# Altium footprint library IPC-SM-782 Section 14.1.1 PBGA 1.5mm.PcbLib: 50 footprints (part 2 of 7)
Each footprint in its own frame and in the unit in brackets; x right, y up, seen from the top. Pads: shape width x height; smd on the part's side, far side on the other; paste and mask are expansions set on the pad; w line width, h text height; cw(c..) or ccw(c..) is an arc to the next point about the centre after c.
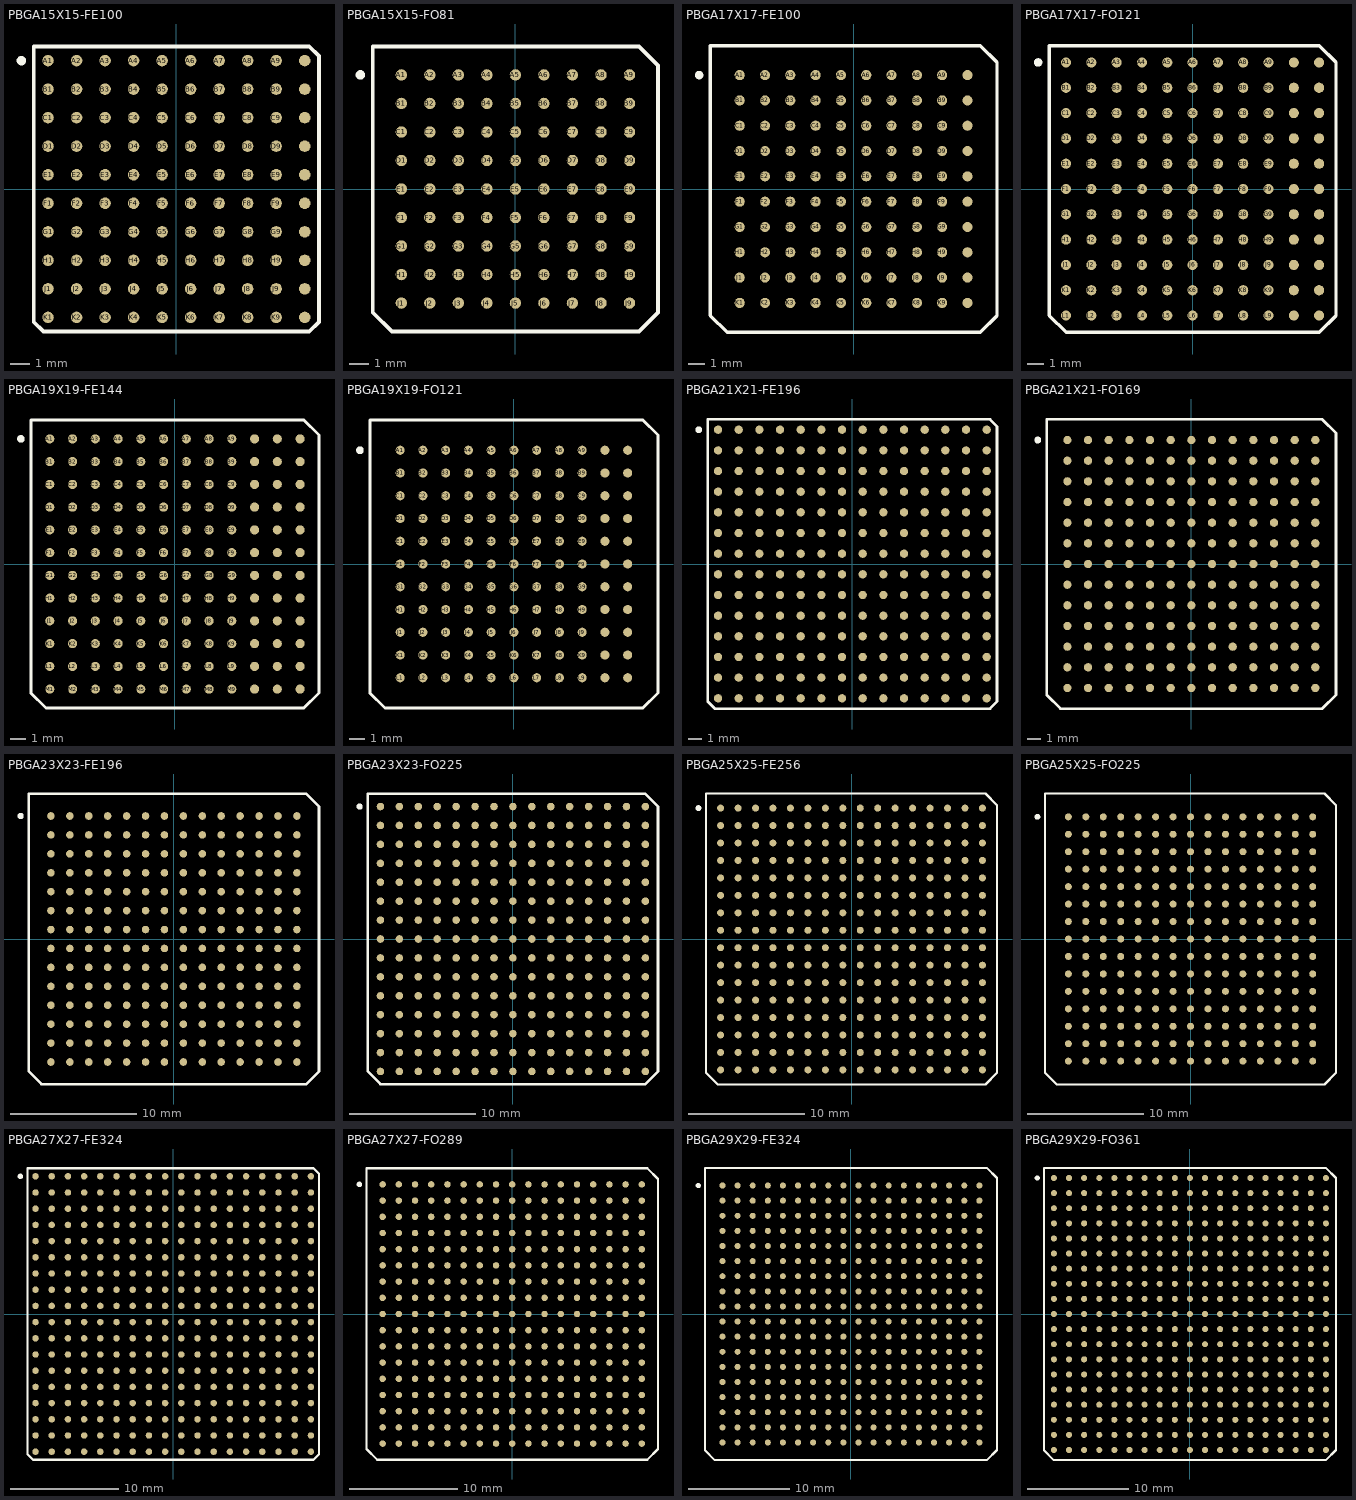
[diagram p1: the footprints below, top view; thin cyan lines are the x and y axes]

## PBGA15X15-FE100 [mm] "BGA; 100 Balls; Body 15 x 15 mm; Pitch 1.5 mm"
height 3.5
pads (100):
  round 0.6 smd: A1(-6.75,6.75) A2(-5.25,6.75) A3(-3.75,6.75) A4(-2.25,6.75) A5(-0.75,6.75) A6(0.75,6.75) A7(2.25,6.75) A8(3.75,6.75) A9(5.25,6.75) A10(6.75,6.75) B1(-6.75,5.25) B2(-5.25,5.25) B3(-3.75,5.25) B4(-2.25,5.25) B5(-0.75,5.25) B6(0.75,5.25) B7(2.25,5.25) B8(3.75,5.25) B9(5.25,5.25) B10(6.75,5.25) C1(-6.75,3.75) C2(-5.25,3.75) C3(-3.75,3.75) C4(-2.25,3.75) C5(-0.75,3.75) C6(0.75,3.75) C7(2.25,3.75) C8(3.75,3.75) C9(5.25,3.75) C10(6.75,3.75) D1(-6.75,2.25) D2(-5.25,2.25) D3(-3.75,2.25) D4(-2.25,2.25) D5(-0.75,2.25) D6(0.75,2.25) D7(2.25,2.25) D8(3.75,2.25) D9(5.25,2.25) D10(6.75,2.25) E1(-6.75,0.75) E2(-5.25,0.75) E3(-3.75,0.75) E4(-2.25,0.75) E5(-0.75,0.75) E6(0.75,0.75) E7(2.25,0.75) E8(3.75,0.75) E9(5.25,0.75) E10(6.75,0.75) F1(-6.75,-0.75) F2(-5.25,-0.75) F3(-3.75,-0.75) F4(-2.25,-0.75) F5(-0.75,-0.75) F6(0.75,-0.75) F7(2.25,-0.75) F8(3.75,-0.75) F9(5.25,-0.75) F10(6.75,-0.75) G1(-6.75,-2.25) G2(-5.25,-2.25) G3(-3.75,-2.25) G4(-2.25,-2.25) G5(-0.75,-2.25) G6(0.75,-2.25) G7(2.25,-2.25) G8(3.75,-2.25) G9(5.25,-2.25) G10(6.75,-2.25) H1(-6.75,-3.75) H2(-5.25,-3.75) H3(-3.75,-3.75) H4(-2.25,-3.75) H5(-0.75,-3.75) H6(0.75,-3.75) H7(2.25,-3.75) H8(3.75,-3.75) H9(5.25,-3.75) H10(6.75,-3.75) J1(-6.75,-5.25) J2(-5.25,-5.25) J3(-3.75,-5.25) J4(-2.25,-5.25) J5(-0.75,-5.25) J6(0.75,-5.25) J7(2.25,-5.25) J8(3.75,-5.25) J9(5.25,-5.25) J10(6.75,-5.25) K1(-6.75,-6.75) K2(-5.25,-6.75) K3(-3.75,-6.75) K4(-2.25,-6.75) K5(-0.75,-6.75) K6(0.75,-6.75) K7(2.25,-6.75) K8(3.75,-6.75) K9(5.25,-6.75) K10(6.75,-6.75)
Top Overlay:
  circle w0.25: c-8.155,6.75 r0.125
  lines w0.2: -7.5,-6.99 -7.5,7.5 6.99,7.5 7.5,6.99 7.5,-6.99 6.99,-7.5 -6.99,-7.5 -7.5,-6.99

## PBGA15X15-FO81 [mm] "BGA; 81 Balls; Body 15 x 15 mm; Pitch 1.5 mm"
height 3.5
pads (81):
  round 0.6 smd: A1(-6,6) A2(-4.5,6) A3(-3,6) A4(-1.5,6) A5(0,6) A6(1.5,6) A7(3,6) A8(4.5,6) A9(6,6) B1(-6,4.5) B2(-4.5,4.5) B3(-3,4.5) B4(-1.5,4.5) B5(0,4.5) B6(1.5,4.5) B7(3,4.5) B8(4.5,4.5) B9(6,4.5) C1(-6,3) C2(-4.5,3) C3(-3,3) C4(-1.5,3) C5(0,3) C6(1.5,3) C7(3,3) C8(4.5,3) C9(6,3) D1(-6,1.5) D2(-4.5,1.5) D3(-3,1.5) D4(-1.5,1.5) D5(0,1.5) D6(1.5,1.5) D7(3,1.5) D8(4.5,1.5) D9(6,1.5) E1(-6,0) E2(-4.5,0) E3(-3,0) E4(-1.5,0) E5(0,0) E6(1.5,0) E7(3,0) E8(4.5,0) E9(6,0) F1(-6,-1.5) F2(-4.5,-1.5) F3(-3,-1.5) F4(-1.5,-1.5) F5(0,-1.5) F6(1.5,-1.5) F7(3,-1.5) F8(4.5,-1.5) F9(6,-1.5) G1(-6,-3) G2(-4.5,-3) G3(-3,-3) G4(-1.5,-3) G5(0,-3) G6(1.5,-3) G7(3,-3) G8(4.5,-3) G9(6,-3) H1(-6,-4.5) H2(-4.5,-4.5) H3(-3,-4.5) H4(-1.5,-4.5) H5(0,-4.5) H6(1.5,-4.5) H7(3,-4.5) H8(4.5,-4.5) H9(6,-4.5) J1(-6,-6) J2(-4.5,-6) J3(-3,-6) J4(-1.5,-6) J5(0,-6) J6(1.5,-6) J7(3,-6) J8(4.5,-6) J9(6,-6)
Top Overlay:
  circle w0.25: c-8.155,6 r0.125
  lines w0.2: -7.5,-6.5 -7.5,7.5 6.5,7.5 7.5,6.5 7.5,-6.5 6.5,-7.5 -6.5,-7.5 -7.5,-6.5

## PBGA17X17-FE100 [mm] "BGA; 100 Balls; Body 17 x 17 mm; Pitch 1.5 mm"
height 3.5
pads (100):
  round 0.6 smd: A1(-6.75,6.75) A2(-5.25,6.75) A3(-3.75,6.75) A4(-2.25,6.75) A5(-0.75,6.75) A6(0.75,6.75) A7(2.25,6.75) A8(3.75,6.75) A9(5.25,6.75) A10(6.75,6.75) B1(-6.75,5.25) B2(-5.25,5.25) B3(-3.75,5.25) B4(-2.25,5.25) B5(-0.75,5.25) B6(0.75,5.25) B7(2.25,5.25) B8(3.75,5.25) B9(5.25,5.25) B10(6.75,5.25) C1(-6.75,3.75) C2(-5.25,3.75) C3(-3.75,3.75) C4(-2.25,3.75) C5(-0.75,3.75) C6(0.75,3.75) C7(2.25,3.75) C8(3.75,3.75) C9(5.25,3.75) C10(6.75,3.75) D1(-6.75,2.25) D2(-5.25,2.25) D3(-3.75,2.25) D4(-2.25,2.25) D5(-0.75,2.25) D6(0.75,2.25) D7(2.25,2.25) D8(3.75,2.25) D9(5.25,2.25) D10(6.75,2.25) E1(-6.75,0.75) E2(-5.25,0.75) E3(-3.75,0.75) E4(-2.25,0.75) E5(-0.75,0.75) E6(0.75,0.75) E7(2.25,0.75) E8(3.75,0.75) E9(5.25,0.75) E10(6.75,0.75) F1(-6.75,-0.75) F2(-5.25,-0.75) F3(-3.75,-0.75) F4(-2.25,-0.75) F5(-0.75,-0.75) F6(0.75,-0.75) F7(2.25,-0.75) F8(3.75,-0.75) F9(5.25,-0.75) F10(6.75,-0.75) G1(-6.75,-2.25) G2(-5.25,-2.25) G3(-3.75,-2.25) G4(-2.25,-2.25) G5(-0.75,-2.25) G6(0.75,-2.25) G7(2.25,-2.25) G8(3.75,-2.25) G9(5.25,-2.25) G10(6.75,-2.25) H1(-6.75,-3.75) H2(-5.25,-3.75) H3(-3.75,-3.75) H4(-2.25,-3.75) H5(-0.75,-3.75) H6(0.75,-3.75) H7(2.25,-3.75) H8(3.75,-3.75) H9(5.25,-3.75) H10(6.75,-3.75) J1(-6.75,-5.25) J2(-5.25,-5.25) J3(-3.75,-5.25) J4(-2.25,-5.25) J5(-0.75,-5.25) J6(0.75,-5.25) J7(2.25,-5.25) J8(3.75,-5.25) J9(5.25,-5.25) J10(6.75,-5.25) K1(-6.75,-6.75) K2(-5.25,-6.75) K3(-3.75,-6.75) K4(-2.25,-6.75) K5(-0.75,-6.75) K6(0.75,-6.75) K7(2.25,-6.75) K8(3.75,-6.75) K9(5.25,-6.75) K10(6.75,-6.75)
Top Overlay:
  circle w0.25: c-9.155,6.75 r0.125
  lines w0.2: -8.5,-7.5 -7.5,-8.5 7.5,-8.5 8.5,-7.5 8.5,7.5 7.5,8.5 -8.5,8.5 -8.5,-7.5

## PBGA17X17-FO121 [mm] "BGA; 121 Balls; Body 17 x 17 mm; Pitch 1.5 mm"
height 3.5
pads (121):
  round 0.6 smd: A1(-7.5,7.5) A2(-6,7.5) A3(-4.5,7.5) A4(-3,7.5) A5(-1.5,7.5) A6(0,7.5) A7(1.5,7.5) A8(3,7.5) A9(4.5,7.5) A10(6,7.5) A11(7.5,7.5) B1(-7.5,6) B2(-6,6) B3(-4.5,6) B4(-3,6) B5(-1.5,6) B6(0,6) B7(1.5,6) B8(3,6) B9(4.5,6) B10(6,6) B11(7.5,6) C1(-7.5,4.5) C2(-6,4.5) C3(-4.5,4.5) C4(-3,4.5) C5(-1.5,4.5) C6(0,4.5) C7(1.5,4.5) C8(3,4.5) C9(4.5,4.5) C10(6,4.5) C11(7.5,4.5) D1(-7.5,3) D2(-6,3) D3(-4.5,3) D4(-3,3) D5(-1.5,3) D6(0,3) D7(1.5,3) D8(3,3) D9(4.5,3) D10(6,3) D11(7.5,3) E1(-7.5,1.5) E2(-6,1.5) E3(-4.5,1.5) E4(-3,1.5) E5(-1.5,1.5) E6(0,1.5) E7(1.5,1.5) E8(3,1.5) E9(4.5,1.5) E10(6,1.5) E11(7.5,1.5) F1(-7.5,0) F2(-6,0) F3(-4.5,0) F4(-3,0) F5(-1.5,0) F6(0,0) F7(1.5,0) F8(3,0) F9(4.5,0) F10(6,0) F11(7.5,0) G1(-7.5,-1.5) G2(-6,-1.5) G3(-4.5,-1.5) G4(-3,-1.5) G5(-1.5,-1.5) G6(0,-1.5) G7(1.5,-1.5) G8(3,-1.5) G9(4.5,-1.5) G10(6,-1.5) G11(7.5,-1.5) H1(-7.5,-3) H2(-6,-3) H3(-4.5,-3) H4(-3,-3) H5(-1.5,-3) H6(0,-3) H7(1.5,-3) H8(3,-3) H9(4.5,-3) H10(6,-3) H11(7.5,-3) J1(-7.5,-4.5) J2(-6,-4.5) J3(-4.5,-4.5) J4(-3,-4.5) J5(-1.5,-4.5) J6(0,-4.5) J7(1.5,-4.5) J8(3,-4.5) J9(4.5,-4.5) J10(6,-4.5) J11(7.5,-4.5) K1(-7.5,-6) K2(-6,-6) K3(-4.5,-6) K4(-3,-6) K5(-1.5,-6) K6(0,-6) K7(1.5,-6) K8(3,-6) K9(4.5,-6) K10(6,-6) K11(7.5,-6) L1(-7.5,-7.5) L2(-6,-7.5) L3(-4.5,-7.5) L4(-3,-7.5) L5(-1.5,-7.5) L6(0,-7.5) L7(1.5,-7.5) L8(3,-7.5) L9(4.5,-7.5) L10(6,-7.5) L11(7.5,-7.5)
Top Overlay:
  circle w0.25: c-9.155,7.5 r0.125
  lines w0.2: -8.5,-7.5 -8.5,8.5 7.5,8.5 8.5,7.5 8.5,-7.5 7.5,-8.5 -7.5,-8.5 -8.5,-7.5

## PBGA19X19-FE144 [mm] "BGA; 144 Balls; Body 19 x 19 mm; Pitch 1.5 mm"
height 3.5
pads (144):
  round 0.6 smd: A1(-8.25,8.25) A2(-6.75,8.25) A3(-5.25,8.25) A4(-3.75,8.25) A5(-2.25,8.25) A6(-0.75,8.25) A7(0.75,8.25) A8(2.25,8.25) A9(3.75,8.25) A10(5.25,8.25) A11(6.75,8.25) A12(8.25,8.25) B1(-8.25,6.75) B2(-6.75,6.75) B3(-5.25,6.75) B4(-3.75,6.75) B5(-2.25,6.75) B6(-0.75,6.75) B7(0.75,6.75) B8(2.25,6.75) B9(3.75,6.75) B10(5.25,6.75) B11(6.75,6.75) B12(8.25,6.75) C1(-8.25,5.25) C2(-6.75,5.25) C3(-5.25,5.25) C4(-3.75,5.25) C5(-2.25,5.25) C6(-0.75,5.25) C7(0.75,5.25) C8(2.25,5.25) C9(3.75,5.25) C10(5.25,5.25) C11(6.75,5.25) C12(8.25,5.25) D1(-8.25,3.75) D2(-6.75,3.75) D3(-5.25,3.75) D4(-3.75,3.75) D5(-2.25,3.75) D6(-0.75,3.75) D7(0.75,3.75) D8(2.25,3.75) D9(3.75,3.75) D10(5.25,3.75) D11(6.75,3.75) D12(8.25,3.75) E1(-8.25,2.25) E2(-6.75,2.25) E3(-5.25,2.25) E4(-3.75,2.25) E5(-2.25,2.25) E6(-0.75,2.25) E7(0.75,2.25) E8(2.25,2.25) E9(3.75,2.25) E10(5.25,2.25) E11(6.75,2.25) E12(8.25,2.25) F1(-8.25,0.75) F2(-6.75,0.75) F3(-5.25,0.75) F4(-3.75,0.75) F5(-2.25,0.75) F6(-0.75,0.75) F7(0.75,0.75) F8(2.25,0.75) F9(3.75,0.75) F10(5.25,0.75) F11(6.75,0.75) F12(8.25,0.75) G1(-8.25,-0.75) G2(-6.75,-0.75) G3(-5.25,-0.75) G4(-3.75,-0.75) G5(-2.25,-0.75) G6(-0.75,-0.75) G7(0.75,-0.75) G8(2.25,-0.75) G9(3.75,-0.75) G10(5.25,-0.75) G11(6.75,-0.75) G12(8.25,-0.75) H1(-8.25,-2.25) H2(-6.75,-2.25) H3(-5.25,-2.25) H4(-3.75,-2.25) H5(-2.25,-2.25) H6(-0.75,-2.25) H7(0.75,-2.25) H8(2.25,-2.25) H9(3.75,-2.25) H10(5.25,-2.25) H11(6.75,-2.25) H12(8.25,-2.25) J1(-8.25,-3.75) J2(-6.75,-3.75) J3(-5.25,-3.75) J4(-3.75,-3.75) J5(-2.25,-3.75) J6(-0.75,-3.75) J7(0.75,-3.75) J8(2.25,-3.75) J9(3.75,-3.75) J10(5.25,-3.75) J11(6.75,-3.75) J12(8.25,-3.75) K1(-8.25,-5.25) K2(-6.75,-5.25) K3(-5.25,-5.25) K4(-3.75,-5.25) K5(-2.25,-5.25) K6(-0.75,-5.25) K7(0.75,-5.25) K8(2.25,-5.25) K9(3.75,-5.25) K10(5.25,-5.25) K11(6.75,-5.25) K12(8.25,-5.25) L1(-8.25,-6.75) L2(-6.75,-6.75) L3(-5.25,-6.75) L4(-3.75,-6.75) L5(-2.25,-6.75) L6(-0.75,-6.75) L7(0.75,-6.75) L8(2.25,-6.75) L9(3.75,-6.75) L10(5.25,-6.75) L11(6.75,-6.75) L12(8.25,-6.75) M1(-8.25,-8.25) M2(-6.75,-8.25) M3(-5.25,-8.25) M4(-3.75,-8.25) M5(-2.25,-8.25) M6(-0.75,-8.25) M7(0.75,-8.25) M8(2.25,-8.25) M9(3.75,-8.25) M10(5.25,-8.25) M11(6.75,-8.25) M12(8.25,-8.25)
Top Overlay:
  circle w0.25: c-10.155,8.25 r0.125
  lines w0.2: -9.5,-8.5 -8.5,-9.5 8.5,-9.5 9.5,-8.5 9.5,8.5 8.5,9.5 -9.5,9.5 -9.5,-8.5

## PBGA19X19-FO121 [mm] "BGA; 121 Balls; Body 19 x 19 mm; Pitch 1.5 mm"
height 3.5
pads (121):
  round 0.6 smd: A1(-7.5,7.5) A2(-6,7.5) A3(-4.5,7.5) A4(-3,7.5) A5(-1.5,7.5) A6(0,7.5) A7(1.5,7.5) A8(3,7.5) A9(4.5,7.5) A10(6,7.5) A11(7.5,7.5) B1(-7.5,6) B2(-6,6) B3(-4.5,6) B4(-3,6) B5(-1.5,6) B6(0,6) B7(1.5,6) B8(3,6) B9(4.5,6) B10(6,6) B11(7.5,6) C1(-7.5,4.5) C2(-6,4.5) C3(-4.5,4.5) C4(-3,4.5) C5(-1.5,4.5) C6(0,4.5) C7(1.5,4.5) C8(3,4.5) C9(4.5,4.5) C10(6,4.5) C11(7.5,4.5) D1(-7.5,3) D2(-6,3) D3(-4.5,3) D4(-3,3) D5(-1.5,3) D6(0,3) D7(1.5,3) D8(3,3) D9(4.5,3) D10(6,3) D11(7.5,3) E1(-7.5,1.5) E2(-6,1.5) E3(-4.5,1.5) E4(-3,1.5) E5(-1.5,1.5) E6(0,1.5) E7(1.5,1.5) E8(3,1.5) E9(4.5,1.5) E10(6,1.5) E11(7.5,1.5) F1(-7.5,0) F2(-6,0) F3(-4.5,0) F4(-3,0) F5(-1.5,0) F6(0,0) F7(1.5,0) F8(3,0) F9(4.5,0) F10(6,0) F11(7.5,0) G1(-7.5,-1.5) G2(-6,-1.5) G3(-4.5,-1.5) G4(-3,-1.5) G5(-1.5,-1.5) G6(0,-1.5) G7(1.5,-1.5) G8(3,-1.5) G9(4.5,-1.5) G10(6,-1.5) G11(7.5,-1.5) H1(-7.5,-3) H2(-6,-3) H3(-4.5,-3) H4(-3,-3) H5(-1.5,-3) H6(0,-3) H7(1.5,-3) H8(3,-3) H9(4.5,-3) H10(6,-3) H11(7.5,-3) J1(-7.5,-4.5) J2(-6,-4.5) J3(-4.5,-4.5) J4(-3,-4.5) J5(-1.5,-4.5) J6(0,-4.5) J7(1.5,-4.5) J8(3,-4.5) J9(4.5,-4.5) J10(6,-4.5) J11(7.5,-4.5) K1(-7.5,-6) K2(-6,-6) K3(-4.5,-6) K4(-3,-6) K5(-1.5,-6) K6(0,-6) K7(1.5,-6) K8(3,-6) K9(4.5,-6) K10(6,-6) K11(7.5,-6) L1(-7.5,-7.5) L2(-6,-7.5) L3(-4.5,-7.5) L4(-3,-7.5) L5(-1.5,-7.5) L6(0,-7.5) L7(1.5,-7.5) L8(3,-7.5) L9(4.5,-7.5) L10(6,-7.5) L11(7.5,-7.5)
Top Overlay:
  circle w0.25: c-10.155,7.5 r0.125
  lines w0.2: -9.5,-8.5 -8.5,-9.5 8.5,-9.5 9.5,-8.5 9.5,8.5 8.5,9.5 -9.5,9.5 -9.5,-8.5

## PBGA21X21-FE196 [mm] "BGA; 196 Balls; Body 21 x 21 mm; Pitch 1.5 mm"
height 3.5
pads (196):
  round 0.6 smd: A1(-9.75,9.75) A2(-8.25,9.75) A3(-6.75,9.75) A4(-5.25,9.75) A5(-3.75,9.75) A6(-2.25,9.75) A7(-0.75,9.75) A8(0.75,9.75) A9(2.25,9.75) A10(3.75,9.75) A11(5.25,9.75) A12(6.75,9.75) A13(8.25,9.75) A14(9.75,9.75) B1(-9.75,8.25) B2(-8.25,8.25) B3(-6.75,8.25) B4(-5.25,8.25) B5(-3.75,8.25) B6(-2.25,8.25) B7(-0.75,8.25) B8(0.75,8.25) B9(2.25,8.25) B10(3.75,8.25) B11(5.25,8.25) B12(6.75,8.25) B13(8.25,8.25) B14(9.75,8.25) C1(-9.75,6.75) C2(-8.25,6.75) C3(-6.75,6.75) C4(-5.25,6.75) C5(-3.75,6.75) C6(-2.25,6.75) C7(-0.75,6.75) C8(0.75,6.75) C9(2.25,6.75) C10(3.75,6.75) C11(5.25,6.75) C12(6.75,6.75) C13(8.25,6.75) C14(9.75,6.75) D1(-9.75,5.25) D2(-8.25,5.25) D3(-6.75,5.25) D4(-5.25,5.25) D5(-3.75,5.25) D6(-2.25,5.25) D7(-0.75,5.25) D8(0.75,5.25) D9(2.25,5.25) D10(3.75,5.25) D11(5.25,5.25) D12(6.75,5.25) D13(8.25,5.25) D14(9.75,5.25) E1(-9.75,3.75) E2(-8.25,3.75) E3(-6.75,3.75) E4(-5.25,3.75) E5(-3.75,3.75) E6(-2.25,3.75) E7(-0.75,3.75) E8(0.75,3.75) E9(2.25,3.75) E10(3.75,3.75) E11(5.25,3.75) E12(6.75,3.75) E13(8.25,3.75) E14(9.75,3.75) F1(-9.75,2.25) F2(-8.25,2.25) F3(-6.75,2.25) F4(-5.25,2.25) F5(-3.75,2.25) F6(-2.25,2.25) F7(-0.75,2.25) F8(0.75,2.25) F9(2.25,2.25) F10(3.75,2.25) F11(5.25,2.25) F12(6.75,2.25) F13(8.25,2.25) F14(9.75,2.25) G1(-9.75,0.75) G2(-8.25,0.75) G3(-6.75,0.75) G4(-5.25,0.75) G5(-3.75,0.75) G6(-2.25,0.75) G7(-0.75,0.75) G8(0.75,0.75) G9(2.25,0.75) G10(3.75,0.75) G11(5.25,0.75) G12(6.75,0.75) G13(8.25,0.75) G14(9.75,0.75) H1(-9.75,-0.75) H2(-8.25,-0.75) H3(-6.75,-0.75) H4(-5.25,-0.75) H5(-3.75,-0.75) H6(-2.25,-0.75) H7(-0.75,-0.75) H8(0.75,-0.75) H9(2.25,-0.75) H10(3.75,-0.75) H11(5.25,-0.75) H12(6.75,-0.75) H13(8.25,-0.75) H14(9.75,-0.75) J1(-9.75,-2.25) J2(-8.25,-2.25) J3(-6.75,-2.25) J4(-5.25,-2.25) J5(-3.75,-2.25) J6(-2.25,-2.25) J7(-0.75,-2.25) J8(0.75,-2.25) J9(2.25,-2.25) J10(3.75,-2.25) J11(5.25,-2.25) J12(6.75,-2.25) J13(8.25,-2.25) J14(9.75,-2.25) K1(-9.75,-3.75) K2(-8.25,-3.75) K3(-6.75,-3.75) K4(-5.25,-3.75) K5(-3.75,-3.75) K6(-2.25,-3.75) K7(-0.75,-3.75) K8(0.75,-3.75) K9(2.25,-3.75) K10(3.75,-3.75) K11(5.25,-3.75) K12(6.75,-3.75) K13(8.25,-3.75) K14(9.75,-3.75) L1(-9.75,-5.25) L2(-8.25,-5.25) L3(-6.75,-5.25) L4(-5.25,-5.25) L5(-3.75,-5.25) L6(-2.25,-5.25) L7(-0.75,-5.25) L8(0.75,-5.25) L9(2.25,-5.25) L10(3.75,-5.25) L11(5.25,-5.25) L12(6.75,-5.25) L13(8.25,-5.25) L14(9.75,-5.25) M1(-9.75,-6.75) M2(-8.25,-6.75) M3(-6.75,-6.75) M4(-5.25,-6.75) M5(-3.75,-6.75) M6(-2.25,-6.75) M7(-0.75,-6.75) M8(0.75,-6.75) M9(2.25,-6.75) M10(3.75,-6.75) M11(5.25,-6.75) M12(6.75,-6.75) M13(8.25,-6.75) M14(9.75,-6.75) N1(-9.75,-8.25) N2(-8.25,-8.25) N3(-6.75,-8.25) N4(-5.25,-8.25) N5(-3.75,-8.25) N6(-2.25,-8.25) N7(-0.75,-8.25) N8(0.75,-8.25) N9(2.25,-8.25) N10(3.75,-8.25) N11(5.25,-8.25) N12(6.75,-8.25) N13(8.25,-8.25) N14(9.75,-8.25) P1(-9.75,-9.75) P2(-8.25,-9.75) P3(-6.75,-9.75) P4(-5.25,-9.75) P5(-3.75,-9.75) P6(-2.25,-9.75) P7(-0.75,-9.75) P8(0.75,-9.75) P9(2.25,-9.75) P10(3.75,-9.75) P11(5.25,-9.75) P12(6.75,-9.75) P13(8.25,-9.75) P14(9.75,-9.75)
Top Overlay:
  circle w0.25: c-11.155,9.75 r0.125
  lines w0.2: -10.5,-9.99 -10.5,10.5 9.99,10.5 10.5,9.99 10.5,-9.99 9.99,-10.5 -9.99,-10.5 -10.5,-9.99

## PBGA21X21-FO169 [mm] "BGA; 169 Balls; Body 21 x 21 mm; Pitch 1.5 mm"
height 3.5
pads (169):
  round 0.6 smd: A1(-9,9) A2(-7.5,9) A3(-6,9) A4(-4.5,9) A5(-3,9) A6(-1.5,9) A7(0,9) A8(1.5,9) A9(3,9) A10(4.5,9) A11(6,9) A12(7.5,9) A13(9,9) B1(-9,7.5) B2(-7.5,7.5) B3(-6,7.5) B4(-4.5,7.5) B5(-3,7.5) B6(-1.5,7.5) B7(0,7.5) B8(1.5,7.5) B9(3,7.5) B10(4.5,7.5) B11(6,7.5) B12(7.5,7.5) B13(9,7.5) C1(-9,6) C2(-7.5,6) C3(-6,6) C4(-4.5,6) C5(-3,6) C6(-1.5,6) C7(0,6) C8(1.5,6) C9(3,6) C10(4.5,6) C11(6,6) C12(7.5,6) C13(9,6) D1(-9,4.5) D2(-7.5,4.5) D3(-6,4.5) D4(-4.5,4.5) D5(-3,4.5) D6(-1.5,4.5) D7(0,4.5) D8(1.5,4.5) D9(3,4.5) D10(4.5,4.5) D11(6,4.5) D12(7.5,4.5) D13(9,4.5) E1(-9,3) E2(-7.5,3) E3(-6,3) E4(-4.5,3) E5(-3,3) E6(-1.5,3) E7(0,3) E8(1.5,3) E9(3,3) E10(4.5,3) E11(6,3) E12(7.5,3) E13(9,3) F1(-9,1.5) F2(-7.5,1.5) F3(-6,1.5) F4(-4.5,1.5) F5(-3,1.5) F6(-1.5,1.5) F7(0,1.5) F8(1.5,1.5) F9(3,1.5) F10(4.5,1.5) F11(6,1.5) F12(7.5,1.5) F13(9,1.5) G1(-9,0) G2(-7.5,0) G3(-6,0) G4(-4.5,0) G5(-3,0) G6(-1.5,0) G7(0,0) G8(1.5,0) G9(3,0) G10(4.5,0) G11(6,0) G12(7.5,0) G13(9,0) H1(-9,-1.5) H2(-7.5,-1.5) H3(-6,-1.5) H4(-4.5,-1.5) H5(-3,-1.5) H6(-1.5,-1.5) H7(0,-1.5) H8(1.5,-1.5) H9(3,-1.5) H10(4.5,-1.5) H11(6,-1.5) H12(7.5,-1.5) H13(9,-1.5) J1(-9,-3) J2(-7.5,-3) J3(-6,-3) J4(-4.5,-3) J5(-3,-3) J6(-1.5,-3) J7(0,-3) J8(1.5,-3) J9(3,-3) J10(4.5,-3) J11(6,-3) J12(7.5,-3) J13(9,-3) K1(-9,-4.5) K2(-7.5,-4.5) K3(-6,-4.5) K4(-4.5,-4.5) K5(-3,-4.5) K6(-1.5,-4.5) K7(0,-4.5) K8(1.5,-4.5) K9(3,-4.5) K10(4.5,-4.5) K11(6,-4.5) K12(7.5,-4.5) K13(9,-4.5) L1(-9,-6) L2(-7.5,-6) L3(-6,-6) L4(-4.5,-6) L5(-3,-6) L6(-1.5,-6) L7(0,-6) L8(1.5,-6) L9(3,-6) L10(4.5,-6) L11(6,-6) L12(7.5,-6) L13(9,-6) M1(-9,-7.5) M2(-7.5,-7.5) M3(-6,-7.5) M4(-4.5,-7.5) M5(-3,-7.5) M6(-1.5,-7.5) M7(0,-7.5) M8(1.5,-7.5) M9(3,-7.5) M10(4.5,-7.5) M11(6,-7.5) M12(7.5,-7.5) M13(9,-7.5) N1(-9,-9) N2(-7.5,-9) N3(-6,-9) N4(-4.5,-9) N5(-3,-9) N6(-1.5,-9) N7(0,-9) N8(1.5,-9) N9(3,-9) N10(4.5,-9) N11(6,-9) N12(7.5,-9) N13(9,-9)
Top Overlay:
  circle w0.25: c-11.155,9 r0.125
  lines w0.2: -10.5,-9.5 -10.5,10.5 9.5,10.5 10.5,9.5 10.5,-9.5 9.5,-10.5 -9.5,-10.5 -10.5,-9.5

## PBGA23X23-FE196 [mm] "BGA; 196 Balls; Body 23 x 23 mm; Pitch 1.5 mm"
height 3.5
pads (196):
  round 0.6 smd: A1(-9.75,9.75) A2(-8.25,9.75) A3(-6.75,9.75) A4(-5.25,9.75) A5(-3.75,9.75) A6(-2.25,9.75) A7(-0.75,9.75) A8(0.75,9.75) A9(2.25,9.75) A10(3.75,9.75) A11(5.25,9.75) A12(6.75,9.75) A13(8.25,9.75) A14(9.75,9.75) B1(-9.75,8.25) B2(-8.25,8.25) B3(-6.75,8.25) B4(-5.25,8.25) B5(-3.75,8.25) B6(-2.25,8.25) B7(-0.75,8.25) B8(0.75,8.25) B9(2.25,8.25) B10(3.75,8.25) B11(5.25,8.25) B12(6.75,8.25) B13(8.25,8.25) B14(9.75,8.25) C1(-9.75,6.75) C2(-8.25,6.75) C3(-6.75,6.75) C4(-5.25,6.75) C5(-3.75,6.75) C6(-2.25,6.75) C7(-0.75,6.75) C8(0.75,6.75) C9(2.25,6.75) C10(3.75,6.75) C11(5.25,6.75) C12(6.75,6.75) C13(8.25,6.75) C14(9.75,6.75) D1(-9.75,5.25) D2(-8.25,5.25) D3(-6.75,5.25) D4(-5.25,5.25) D5(-3.75,5.25) D6(-2.25,5.25) D7(-0.75,5.25) D8(0.75,5.25) D9(2.25,5.25) D10(3.75,5.25) D11(5.25,5.25) D12(6.75,5.25) D13(8.25,5.25) D14(9.75,5.25) E1(-9.75,3.75) E2(-8.25,3.75) E3(-6.75,3.75) E4(-5.25,3.75) E5(-3.75,3.75) E6(-2.25,3.75) E7(-0.75,3.75) E8(0.75,3.75) E9(2.25,3.75) E10(3.75,3.75) E11(5.25,3.75) E12(6.75,3.75) E13(8.25,3.75) E14(9.75,3.75) F1(-9.75,2.25) F2(-8.25,2.25) F3(-6.75,2.25) F4(-5.25,2.25) F5(-3.75,2.25) F6(-2.25,2.25) F7(-0.75,2.25) F8(0.75,2.25) F9(2.25,2.25) F10(3.75,2.25) F11(5.25,2.25) F12(6.75,2.25) F13(8.25,2.25) F14(9.75,2.25) G1(-9.75,0.75) G2(-8.25,0.75) G3(-6.75,0.75) G4(-5.25,0.75) G5(-3.75,0.75) G6(-2.25,0.75) G7(-0.75,0.75) G8(0.75,0.75) G9(2.25,0.75) G10(3.75,0.75) G11(5.25,0.75) G12(6.75,0.75) G13(8.25,0.75) G14(9.75,0.75) H1(-9.75,-0.75) H2(-8.25,-0.75) H3(-6.75,-0.75) H4(-5.25,-0.75) H5(-3.75,-0.75) H6(-2.25,-0.75) H7(-0.75,-0.75) H8(0.75,-0.75) H9(2.25,-0.75) H10(3.75,-0.75) H11(5.25,-0.75) H12(6.75,-0.75) H13(8.25,-0.75) H14(9.75,-0.75) J1(-9.75,-2.25) J2(-8.25,-2.25) J3(-6.75,-2.25) J4(-5.25,-2.25) J5(-3.75,-2.25) J6(-2.25,-2.25) J7(-0.75,-2.25) J8(0.75,-2.25) J9(2.25,-2.25) J10(3.75,-2.25) J11(5.25,-2.25) J12(6.75,-2.25) J13(8.25,-2.25) J14(9.75,-2.25) K1(-9.75,-3.75) K2(-8.25,-3.75) K3(-6.75,-3.75) K4(-5.25,-3.75) K5(-3.75,-3.75) K6(-2.25,-3.75) K7(-0.75,-3.75) K8(0.75,-3.75) K9(2.25,-3.75) K10(3.75,-3.75) K11(5.25,-3.75) K12(6.75,-3.75) K13(8.25,-3.75) K14(9.75,-3.75) L1(-9.75,-5.25) L2(-8.25,-5.25) L3(-6.75,-5.25) L4(-5.25,-5.25) L5(-3.75,-5.25) L6(-2.25,-5.25) L7(-0.75,-5.25) L8(0.75,-5.25) L9(2.25,-5.25) L10(3.75,-5.25) L11(5.25,-5.25) L12(6.75,-5.25) L13(8.25,-5.25) L14(9.75,-5.25) M1(-9.75,-6.75) M2(-8.25,-6.75) M3(-6.75,-6.75) M4(-5.25,-6.75) M5(-3.75,-6.75) M6(-2.25,-6.75) M7(-0.75,-6.75) M8(0.75,-6.75) M9(2.25,-6.75) M10(3.75,-6.75) M11(5.25,-6.75) M12(6.75,-6.75) M13(8.25,-6.75) M14(9.75,-6.75) N1(-9.75,-8.25) N2(-8.25,-8.25) N3(-6.75,-8.25) N4(-5.25,-8.25) N5(-3.75,-8.25) N6(-2.25,-8.25) N7(-0.75,-8.25) N8(0.75,-8.25) N9(2.25,-8.25) N10(3.75,-8.25) N11(5.25,-8.25) N12(6.75,-8.25) N13(8.25,-8.25) N14(9.75,-8.25) P1(-9.75,-9.75) P2(-8.25,-9.75) P3(-6.75,-9.75) P4(-5.25,-9.75) P5(-3.75,-9.75) P6(-2.25,-9.75) P7(-0.75,-9.75) P8(0.75,-9.75) P9(2.25,-9.75) P10(3.75,-9.75) P11(5.25,-9.75) P12(6.75,-9.75) P13(8.25,-9.75) P14(9.75,-9.75)
Top Overlay:
  circle w0.25: c-12.155,9.75 r0.125
  lines w0.2: -11.5,-10.5 -11.5,11.5 10.5,11.5 11.5,10.5 11.5,-10.5 10.5,-11.5 -10.5,-11.5 -11.5,-10.5

## PBGA23X23-FO225 [mm] "BGA; 225 Balls; Body 23 x 23 mm; Pitch 1.5 mm"
height 3.5
pads (225):
  round 0.6 smd: A1(-10.5,10.5) A2(-9,10.5) A3(-7.5,10.5) A4(-6,10.5) A5(-4.5,10.5) A6(-3,10.5) A7(-1.5,10.5) A8(0,10.5) A9(1.5,10.5) A10(3,10.5) A11(4.5,10.5) A12(6,10.5) A13(7.5,10.5) A14(9,10.5) A15(10.5,10.5) B1(-10.5,9) B2(-9,9) B3(-7.5,9) B4(-6,9) B5(-4.5,9) B6(-3,9) B7(-1.5,9) B8(0,9) B9(1.5,9) B10(3,9) B11(4.5,9) B12(6,9) B13(7.5,9) B14(9,9) B15(10.5,9) C1(-10.5,7.5) C2(-9,7.5) C3(-7.5,7.5) C4(-6,7.5) C5(-4.5,7.5) C6(-3,7.5) C7(-1.5,7.5) C8(0,7.5) C9(1.5,7.5) C10(3,7.5) C11(4.5,7.5) C12(6,7.5) C13(7.5,7.5) C14(9,7.5) C15(10.5,7.5) D1(-10.5,6) D2(-9,6) D3(-7.5,6) D4(-6,6) D5(-4.5,6) D6(-3,6) D7(-1.5,6) D8(0,6) D9(1.5,6) D10(3,6) D11(4.5,6) D12(6,6) D13(7.5,6) D14(9,6) D15(10.5,6) E1(-10.5,4.5) E2(-9,4.5) E3(-7.5,4.5) E4(-6,4.5) E5(-4.5,4.5) E6(-3,4.5) E7(-1.5,4.5) E8(0,4.5) E9(1.5,4.5) E10(3,4.5) E11(4.5,4.5) E12(6,4.5) E13(7.5,4.5) E14(9,4.5) E15(10.5,4.5) F1(-10.5,3) F2(-9,3) F3(-7.5,3) F4(-6,3) F5(-4.5,3) F6(-3,3) F7(-1.5,3) F8(0,3) F9(1.5,3) F10(3,3) F11(4.5,3) F12(6,3) F13(7.5,3) F14(9,3) F15(10.5,3) G1(-10.5,1.5) G2(-9,1.5) G3(-7.5,1.5) G4(-6,1.5) G5(-4.5,1.5) G6(-3,1.5) G7(-1.5,1.5) G8(0,1.5) G9(1.5,1.5) G10(3,1.5) G11(4.5,1.5) G12(6,1.5) G13(7.5,1.5) G14(9,1.5) G15(10.5,1.5) H1(-10.5,0) H2(-9,0) H3(-7.5,0) H4(-6,0) H5(-4.5,0) H6(-3,0) H7(-1.5,0) H8(0,0) H9(1.5,0) H10(3,0) H11(4.5,0) H12(6,0) H13(7.5,0) H14(9,0) H15(10.5,0) J1(-10.5,-1.5) J2(-9,-1.5) J3(-7.5,-1.5) J4(-6,-1.5) J5(-4.5,-1.5) J6(-3,-1.5) J7(-1.5,-1.5) J8(0,-1.5) J9(1.5,-1.5) J10(3,-1.5) J11(4.5,-1.5) J12(6,-1.5) J13(7.5,-1.5) J14(9,-1.5) J15(10.5,-1.5) K1(-10.5,-3) K2(-9,-3) K3(-7.5,-3) K4(-6,-3) K5(-4.5,-3) K6(-3,-3) K7(-1.5,-3) K8(0,-3) K9(1.5,-3) K10(3,-3) K11(4.5,-3) K12(6,-3) K13(7.5,-3) K14(9,-3) K15(10.5,-3) L1(-10.5,-4.5) L2(-9,-4.5) L3(-7.5,-4.5) L4(-6,-4.5) L5(-4.5,-4.5) L6(-3,-4.5) L7(-1.5,-4.5) L8(0,-4.5) L9(1.5,-4.5) L10(3,-4.5) L11(4.5,-4.5) L12(6,-4.5) L13(7.5,-4.5) L14(9,-4.5) L15(10.5,-4.5) M1(-10.5,-6) M2(-9,-6) M3(-7.5,-6) M4(-6,-6) M5(-4.5,-6) M6(-3,-6) M7(-1.5,-6) M8(0,-6) M9(1.5,-6) M10(3,-6) M11(4.5,-6) M12(6,-6) M13(7.5,-6) M14(9,-6) M15(10.5,-6) N1(-10.5,-7.5) N2(-9,-7.5) N3(-7.5,-7.5) N4(-6,-7.5) N5(-4.5,-7.5) N6(-3,-7.5) N7(-1.5,-7.5) N8(0,-7.5) N9(1.5,-7.5) N10(3,-7.5) N11(4.5,-7.5) N12(6,-7.5) N13(7.5,-7.5) N14(9,-7.5) N15(10.5,-7.5) P1(-10.5,-9) P2(-9,-9) P3(-7.5,-9) P4(-6,-9) P5(-4.5,-9) P6(-3,-9) P7(-1.5,-9) P8(0,-9) P9(1.5,-9) P10(3,-9) P11(4.5,-9) P12(6,-9) P13(7.5,-9) P14(9,-9) P15(10.5,-9) R1(-10.5,-10.5) R2(-9,-10.5) R3(-7.5,-10.5) R4(-6,-10.5) R5(-4.5,-10.5) R6(-3,-10.5) R7(-1.5,-10.5) R8(0,-10.5) R9(1.5,-10.5) R10(3,-10.5) R11(4.5,-10.5) R12(6,-10.5) R13(7.5,-10.5) R14(9,-10.5) R15(10.5,-10.5)
Top Overlay:
  circle w0.25: c-12.155,10.5 r0.125
  lines w0.2: -11.5,-10.5 -10.5,-11.5 10.5,-11.5 11.5,-10.5 11.5,10.5 10.5,11.5 -11.5,11.5 -11.5,-10.5

## PBGA25X25-FE256 [mm] "BGA; 256 Balls; Body 25 x 25 mm; Pitch 1.5 mm"
height 3.5
pads (256):
  round 0.6 smd: A1(-11.25,11.25) A2(-9.75,11.25) A3(-8.25,11.25) A4(-6.75,11.25) A5(-5.25,11.25) A6(-3.75,11.25) A7(-2.25,11.25) A8(-0.75,11.25) A9(0.75,11.25) A10(2.25,11.25) A11(3.75,11.25) A12(5.25,11.25) A13(6.75,11.25) A14(8.25,11.25) A15(9.75,11.25) A16(11.25,11.25) B1(-11.25,9.75) B2(-9.75,9.75) B3(-8.25,9.75) B4(-6.75,9.75) B5(-5.25,9.75) B6(-3.75,9.75) B7(-2.25,9.75) B8(-0.75,9.75) B9(0.75,9.75) B10(2.25,9.75) B11(3.75,9.75) B12(5.25,9.75) B13(6.75,9.75) B14(8.25,9.75) B15(9.75,9.75) B16(11.25,9.75) C1(-11.25,8.25) C2(-9.75,8.25) C3(-8.25,8.25) C4(-6.75,8.25) C5(-5.25,8.25) C6(-3.75,8.25) C7(-2.25,8.25) C8(-0.75,8.25) C9(0.75,8.25) C10(2.25,8.25) C11(3.75,8.25) C12(5.25,8.25) C13(6.75,8.25) C14(8.25,8.25) C15(9.75,8.25) C16(11.25,8.25) D1(-11.25,6.75) D2(-9.75,6.75) D3(-8.25,6.75) D4(-6.75,6.75) D5(-5.25,6.75) D6(-3.75,6.75) D7(-2.25,6.75) D8(-0.75,6.75) D9(0.75,6.75) D10(2.25,6.75) D11(3.75,6.75) D12(5.25,6.75) D13(6.75,6.75) D14(8.25,6.75) D15(9.75,6.75) D16(11.25,6.75) E1(-11.25,5.25) E2(-9.75,5.25) E3(-8.25,5.25) E4(-6.75,5.25) E5(-5.25,5.25) E6(-3.75,5.25) E7(-2.25,5.25) E8(-0.75,5.25) E9(0.75,5.25) E10(2.25,5.25) E11(3.75,5.25) E12(5.25,5.25) E13(6.75,5.25) E14(8.25,5.25) E15(9.75,5.25) E16(11.25,5.25) F1(-11.25,3.75) F2(-9.75,3.75) F3(-8.25,3.75) F4(-6.75,3.75) F5(-5.25,3.75) F6(-3.75,3.75) F7(-2.25,3.75) F8(-0.75,3.75) F9(0.75,3.75) F10(2.25,3.75) F11(3.75,3.75) F12(5.25,3.75) F13(6.75,3.75) F14(8.25,3.75) F15(9.75,3.75) F16(11.25,3.75) G1(-11.25,2.25) G2(-9.75,2.25) G3(-8.25,2.25) G4(-6.75,2.25) G5(-5.25,2.25) G6(-3.75,2.25) G7(-2.25,2.25) G8(-0.75,2.25) G9(0.75,2.25) G10(2.25,2.25) G11(3.75,2.25) G12(5.25,2.25) G13(6.75,2.25) G14(8.25,2.25) G15(9.75,2.25) G16(11.25,2.25) H1(-11.25,0.75) H2(-9.75,0.75) H3(-8.25,0.75) H4(-6.75,0.75) H5(-5.25,0.75) H6(-3.75,0.75) H7(-2.25,0.75) H8(-0.75,0.75) H9(0.75,0.75) H10(2.25,0.75) H11(3.75,0.75) H12(5.25,0.75) H13(6.75,0.75) H14(8.25,0.75) H15(9.75,0.75) H16(11.25,0.75) J1(-11.25,-0.75) J2(-9.75,-0.75) J3(-8.25,-0.75) J4(-6.75,-0.75) J5(-5.25,-0.75) J6(-3.75,-0.75) J7(-2.25,-0.75) J8(-0.75,-0.75) J9(0.75,-0.75) J10(2.25,-0.75) J11(3.75,-0.75) J12(5.25,-0.75) J13(6.75,-0.75) J14(8.25,-0.75) J15(9.75,-0.75) J16(11.25,-0.75) K1(-11.25,-2.25) K2(-9.75,-2.25) K3(-8.25,-2.25) K4(-6.75,-2.25) K5(-5.25,-2.25) K6(-3.75,-2.25) K7(-2.25,-2.25) K8(-0.75,-2.25) K9(0.75,-2.25) K10(2.25,-2.25) K11(3.75,-2.25) K12(5.25,-2.25) K13(6.75,-2.25) K14(8.25,-2.25) K15(9.75,-2.25) K16(11.25,-2.25) L1(-11.25,-3.75) L2(-9.75,-3.75) L3(-8.25,-3.75) L4(-6.75,-3.75) L5(-5.25,-3.75) L6(-3.75,-3.75) L7(-2.25,-3.75) L8(-0.75,-3.75) L9(0.75,-3.75) L10(2.25,-3.75) L11(3.75,-3.75) L12(5.25,-3.75) L13(6.75,-3.75) L14(8.25,-3.75) L15(9.75,-3.75) L16(11.25,-3.75) M1(-11.25,-5.25) M2(-9.75,-5.25) M3(-8.25,-5.25) M4(-6.75,-5.25) M5(-5.25,-5.25) M6(-3.75,-5.25) M7(-2.25,-5.25) M8(-0.75,-5.25) M9(0.75,-5.25) M10(2.25,-5.25) M11(3.75,-5.25) M12(5.25,-5.25) M13(6.75,-5.25) M14(8.25,-5.25) M15(9.75,-5.25) M16(11.25,-5.25) N1(-11.25,-6.75) N2(-9.75,-6.75) N3(-8.25,-6.75) N4(-6.75,-6.75) N5(-5.25,-6.75) N6(-3.75,-6.75) N7(-2.25,-6.75) N8(-0.75,-6.75) N9(0.75,-6.75) N10(2.25,-6.75) N11(3.75,-6.75) N12(5.25,-6.75) N13(6.75,-6.75) N14(8.25,-6.75) N15(9.75,-6.75) N16(11.25,-6.75) P1(-11.25,-8.25) P2(-9.75,-8.25) P3(-8.25,-8.25) P4(-6.75,-8.25) P5(-5.25,-8.25) P6(-3.75,-8.25) P7(-2.25,-8.25) P8(-0.75,-8.25) P9(0.75,-8.25) P10(2.25,-8.25) P11(3.75,-8.25) P12(5.25,-8.25) P13(6.75,-8.25) P14(8.25,-8.25) P15(9.75,-8.25) P16(11.25,-8.25) R1(-11.25,-9.75) R2(-9.75,-9.75) R3(-8.25,-9.75) R4(-6.75,-9.75) R5(-5.25,-9.75) R6(-3.75,-9.75) R7(-2.25,-9.75) R8(-0.75,-9.75) R9(0.75,-9.75) R10(2.25,-9.75) R11(3.75,-9.75) R12(5.25,-9.75) R13(6.75,-9.75) R14(8.25,-9.75) R15(9.75,-9.75) R16(11.25,-9.75) T1(-11.25,-11.25) T2(-9.75,-11.25) T3(-8.25,-11.25) T4(-6.75,-11.25) T5(-5.25,-11.25) T6(-3.75,-11.25) T7(-2.25,-11.25) T8(-0.75,-11.25) T9(0.75,-11.25) T10(2.25,-11.25) T11(3.75,-11.25) T12(5.25,-11.25) T13(6.75,-11.25) T14(8.25,-11.25) T15(9.75,-11.25) T16(11.25,-11.25)
Top Overlay:
  circle w0.25: c-13.155,11.25 r0.125
  lines w0.2: -12.5,-11.5 -11.5,-12.5 11.5,-12.5 12.5,-11.5 12.5,11.5 11.5,12.5 -12.5,12.5 -12.5,-11.5

## PBGA25X25-FO225 [mm] "BGA; 225 Balls; Body 25 x 25 mm; Pitch 1.5 mm"
height 3.5
pads (225):
  round 0.6 smd: A1(-10.5,10.5) A2(-9,10.5) A3(-7.5,10.5) A4(-6,10.5) A5(-4.5,10.5) A6(-3,10.5) A7(-1.5,10.5) A8(0,10.5) A9(1.5,10.5) A10(3,10.5) A11(4.5,10.5) A12(6,10.5) A13(7.5,10.5) A14(9,10.5) A15(10.5,10.5) B1(-10.5,9) B2(-9,9) B3(-7.5,9) B4(-6,9) B5(-4.5,9) B6(-3,9) B7(-1.5,9) B8(0,9) B9(1.5,9) B10(3,9) B11(4.5,9) B12(6,9) B13(7.5,9) B14(9,9) B15(10.5,9) C1(-10.5,7.5) C2(-9,7.5) C3(-7.5,7.5) C4(-6,7.5) C5(-4.5,7.5) C6(-3,7.5) C7(-1.5,7.5) C8(0,7.5) C9(1.5,7.5) C10(3,7.5) C11(4.5,7.5) C12(6,7.5) C13(7.5,7.5) C14(9,7.5) C15(10.5,7.5) D1(-10.5,6) D2(-9,6) D3(-7.5,6) D4(-6,6) D5(-4.5,6) D6(-3,6) D7(-1.5,6) D8(0,6) D9(1.5,6) D10(3,6) D11(4.5,6) D12(6,6) D13(7.5,6) D14(9,6) D15(10.5,6) E1(-10.5,4.5) E2(-9,4.5) E3(-7.5,4.5) E4(-6,4.5) E5(-4.5,4.5) E6(-3,4.5) E7(-1.5,4.5) E8(0,4.5) E9(1.5,4.5) E10(3,4.5) E11(4.5,4.5) E12(6,4.5) E13(7.5,4.5) E14(9,4.5) E15(10.5,4.5) F1(-10.5,3) F2(-9,3) F3(-7.5,3) F4(-6,3) F5(-4.5,3) F6(-3,3) F7(-1.5,3) F8(0,3) F9(1.5,3) F10(3,3) F11(4.5,3) F12(6,3) F13(7.5,3) F14(9,3) F15(10.5,3) G1(-10.5,1.5) G2(-9,1.5) G3(-7.5,1.5) G4(-6,1.5) G5(-4.5,1.5) G6(-3,1.5) G7(-1.5,1.5) G8(0,1.5) G9(1.5,1.5) G10(3,1.5) G11(4.5,1.5) G12(6,1.5) G13(7.5,1.5) G14(9,1.5) G15(10.5,1.5) H1(-10.5,0) H2(-9,0) H3(-7.5,0) H4(-6,0) H5(-4.5,0) H6(-3,0) H7(-1.5,0) H8(0,0) H9(1.5,0) H10(3,0) H11(4.5,0) H12(6,0) H13(7.5,0) H14(9,0) H15(10.5,0) J1(-10.5,-1.5) J2(-9,-1.5) J3(-7.5,-1.5) J4(-6,-1.5) J5(-4.5,-1.5) J6(-3,-1.5) J7(-1.5,-1.5) J8(0,-1.5) J9(1.5,-1.5) J10(3,-1.5) J11(4.5,-1.5) J12(6,-1.5) J13(7.5,-1.5) J14(9,-1.5) J15(10.5,-1.5) K1(-10.5,-3) K2(-9,-3) K3(-7.5,-3) K4(-6,-3) K5(-4.5,-3) K6(-3,-3) K7(-1.5,-3) K8(0,-3) K9(1.5,-3) K10(3,-3) K11(4.5,-3) K12(6,-3) K13(7.5,-3) K14(9,-3) K15(10.5,-3) L1(-10.5,-4.5) L2(-9,-4.5) L3(-7.5,-4.5) L4(-6,-4.5) L5(-4.5,-4.5) L6(-3,-4.5) L7(-1.5,-4.5) L8(0,-4.5) L9(1.5,-4.5) L10(3,-4.5) L11(4.5,-4.5) L12(6,-4.5) L13(7.5,-4.5) L14(9,-4.5) L15(10.5,-4.5) M1(-10.5,-6) M2(-9,-6) M3(-7.5,-6) M4(-6,-6) M5(-4.5,-6) M6(-3,-6) M7(-1.5,-6) M8(0,-6) M9(1.5,-6) M10(3,-6) M11(4.5,-6) M12(6,-6) M13(7.5,-6) M14(9,-6) M15(10.5,-6) N1(-10.5,-7.5) N2(-9,-7.5) N3(-7.5,-7.5) N4(-6,-7.5) N5(-4.5,-7.5) N6(-3,-7.5) N7(-1.5,-7.5) N8(0,-7.5) N9(1.5,-7.5) N10(3,-7.5) N11(4.5,-7.5) N12(6,-7.5) N13(7.5,-7.5) N14(9,-7.5) N15(10.5,-7.5) P1(-10.5,-9) P2(-9,-9) P3(-7.5,-9) P4(-6,-9) P5(-4.5,-9) P6(-3,-9) P7(-1.5,-9) P8(0,-9) P9(1.5,-9) P10(3,-9) P11(4.5,-9) P12(6,-9) P13(7.5,-9) P14(9,-9) P15(10.5,-9) R1(-10.5,-10.5) R2(-9,-10.5) R3(-7.5,-10.5) R4(-6,-10.5) R5(-4.5,-10.5) R6(-3,-10.5) R7(-1.5,-10.5) R8(0,-10.5) R9(1.5,-10.5) R10(3,-10.5) R11(4.5,-10.5) R12(6,-10.5) R13(7.5,-10.5) R14(9,-10.5) R15(10.5,-10.5)
Top Overlay:
  circle w0.25: c-13.155,10.5 r0.125
  lines w0.2: -12.5,-11.5 -11.5,-12.5 11.5,-12.5 12.5,-11.5 12.5,11.5 11.5,12.5 -12.5,12.5 -12.5,-11.5

## PBGA27X27-FE324 [mm] "BGA; 324 Balls; Body 27 x 27 mm; Pitch 1.5 mm"
height 3.5
pads (324):
  round 0.6 smd: A1(-12.75,12.75) A2(-11.25,12.75) A3(-9.75,12.75) A4(-8.25,12.75) A5(-6.75,12.75) A6(-5.25,12.75) A7(-3.75,12.75) A8(-2.25,12.75) A9(-0.75,12.75) A10(0.75,12.75) A11(2.25,12.75) A12(3.75,12.75) A13(5.25,12.75) A14(6.75,12.75) A15(8.25,12.75) A16(9.75,12.75) A17(11.25,12.75) A18(12.75,12.75) B1(-12.75,11.25) B2(-11.25,11.25) B3(-9.75,11.25) B4(-8.25,11.25) B5(-6.75,11.25) B6(-5.25,11.25) B7(-3.75,11.25) B8(-2.25,11.25) B9(-0.75,11.25) B10(0.75,11.25) B11(2.25,11.25) B12(3.75,11.25) B13(5.25,11.25) B14(6.75,11.25) B15(8.25,11.25) B16(9.75,11.25) B17(11.25,11.25) B18(12.75,11.25) C1(-12.75,9.75) C2(-11.25,9.75) C3(-9.75,9.75) C4(-8.25,9.75) C5(-6.75,9.75) C6(-5.25,9.75) C7(-3.75,9.75) C8(-2.25,9.75) C9(-0.75,9.75) C10(0.75,9.75) C11(2.25,9.75) C12(3.75,9.75) C13(5.25,9.75) C14(6.75,9.75) C15(8.25,9.75) C16(9.75,9.75) C17(11.25,9.75) C18(12.75,9.75) D1(-12.75,8.25) D2(-11.25,8.25) D3(-9.75,8.25) D4(-8.25,8.25) D5(-6.75,8.25) D6(-5.25,8.25) D7(-3.75,8.25) D8(-2.25,8.25) D9(-0.75,8.25) D10(0.75,8.25) D11(2.25,8.25) D12(3.75,8.25) D13(5.25,8.25) D14(6.75,8.25) D15(8.25,8.25) D16(9.75,8.25) D17(11.25,8.25) D18(12.75,8.25) E1(-12.75,6.75) E2(-11.25,6.75) E3(-9.75,6.75) E4(-8.25,6.75) E5(-6.75,6.75) E6(-5.25,6.75) E7(-3.75,6.75) E8(-2.25,6.75) E9(-0.75,6.75) E10(0.75,6.75) E11(2.25,6.75) E12(3.75,6.75) E13(5.25,6.75) E14(6.75,6.75) E15(8.25,6.75) E16(9.75,6.75) E17(11.25,6.75) E18(12.75,6.75) F1(-12.75,5.25) F2(-11.25,5.25) F3(-9.75,5.25) F4(-8.25,5.25) F5(-6.75,5.25) F6(-5.25,5.25) F7(-3.75,5.25) F8(-2.25,5.25) F9(-0.75,5.25) F10(0.75,5.25) F11(2.25,5.25) F12(3.75,5.25) F13(5.25,5.25) F14(6.75,5.25) F15(8.25,5.25) F16(9.75,5.25) F17(11.25,5.25) F18(12.75,5.25) G1(-12.75,3.75) G2(-11.25,3.75) G3(-9.75,3.75) G4(-8.25,3.75) G5(-6.75,3.75) G6(-5.25,3.75) G7(-3.75,3.75) G8(-2.25,3.75) G9(-0.75,3.75) G10(0.75,3.75) G11(2.25,3.75) G12(3.75,3.75) G13(5.25,3.75) G14(6.75,3.75) G15(8.25,3.75) G16(9.75,3.75) G17(11.25,3.75) G18(12.75,3.75) H1(-12.75,2.25) H2(-11.25,2.25) H3(-9.75,2.25) H4(-8.25,2.25) H5(-6.75,2.25) H6(-5.25,2.25) H7(-3.75,2.25) H8(-2.25,2.25) H9(-0.75,2.25) H10(0.75,2.25) H11(2.25,2.25) H12(3.75,2.25) H13(5.25,2.25) H14(6.75,2.25) H15(8.25,2.25) H16(9.75,2.25) H17(11.25,2.25) H18(12.75,2.25) J1(-12.75,0.75) J2(-11.25,0.75) J3(-9.75,0.75) J4(-8.25,0.75) J5(-6.75,0.75) J6(-5.25,0.75) J7(-3.75,0.75) J8(-2.25,0.75) J9(-0.75,0.75) J10(0.75,0.75) J11(2.25,0.75) J12(3.75,0.75) J13(5.25,0.75) J14(6.75,0.75) J15(8.25,0.75) J16(9.75,0.75) J17(11.25,0.75) J18(12.75,0.75) K1(-12.75,-0.75) K2(-11.25,-0.75) K3(-9.75,-0.75) K4(-8.25,-0.75) K5(-6.75,-0.75) K6(-5.25,-0.75) K7(-3.75,-0.75) K8(-2.25,-0.75) K9(-0.75,-0.75) K10(0.75,-0.75) K11(2.25,-0.75) K12(3.75,-0.75) K13(5.25,-0.75) K14(6.75,-0.75) K15(8.25,-0.75) K16(9.75,-0.75) K17(11.25,-0.75) K18(12.75,-0.75) L1(-12.75,-2.25) L2(-11.25,-2.25) L3(-9.75,-2.25) L4(-8.25,-2.25) L5(-6.75,-2.25) L6(-5.25,-2.25) L7(-3.75,-2.25) L8(-2.25,-2.25) L9(-0.75,-2.25) L10(0.75,-2.25) L11(2.25,-2.25) L12(3.75,-2.25) L13(5.25,-2.25) L14(6.75,-2.25) L15(8.25,-2.25) L16(9.75,-2.25) L17(11.25,-2.25) L18(12.75,-2.25) M1(-12.75,-3.75) M2(-11.25,-3.75) M3(-9.75,-3.75) M4(-8.25,-3.75) M5(-6.75,-3.75) M6(-5.25,-3.75) M7(-3.75,-3.75) M8(-2.25,-3.75) M9(-0.75,-3.75) M10(0.75,-3.75) M11(2.25,-3.75) M12(3.75,-3.75) M13(5.25,-3.75) M14(6.75,-3.75) M15(8.25,-3.75) M16(9.75,-3.75) M17(11.25,-3.75) M18(12.75,-3.75) N1(-12.75,-5.25) N2(-11.25,-5.25) N3(-9.75,-5.25) N4(-8.25,-5.25) N5(-6.75,-5.25) N6(-5.25,-5.25) N7(-3.75,-5.25) N8(-2.25,-5.25) N9(-0.75,-5.25) N10(0.75,-5.25) N11(2.25,-5.25) N12(3.75,-5.25) N13(5.25,-5.25) N14(6.75,-5.25) N15(8.25,-5.25) N16(9.75,-5.25) N17(11.25,-5.25) N18(12.75,-5.25) P1(-12.75,-6.75) P2(-11.25,-6.75) P3(-9.75,-6.75) P4(-8.25,-6.75) P5(-6.75,-6.75) P6(-5.25,-6.75) P7(-3.75,-6.75) P8(-2.25,-6.75) P9(-0.75,-6.75) P10(0.75,-6.75) P11(2.25,-6.75) P12(3.75,-6.75) P13(5.25,-6.75) P14(6.75,-6.75) P15(8.25,-6.75) P16(9.75,-6.75) P17(11.25,-6.75) P18(12.75,-6.75) R1(-12.75,-8.25) R2(-11.25,-8.25) R3(-9.75,-8.25) R4(-8.25,-8.25) R5(-6.75,-8.25) R6(-5.25,-8.25) R7(-3.75,-8.25) R8(-2.25,-8.25) R9(-0.75,-8.25) R10(0.75,-8.25) R11(2.25,-8.25) R12(3.75,-8.25) R13(5.25,-8.25) R14(6.75,-8.25) R15(8.25,-8.25) R16(9.75,-8.25) R17(11.25,-8.25) R18(12.75,-8.25) T1(-12.75,-9.75) T2(-11.25,-9.75) T3(-9.75,-9.75) T4(-8.25,-9.75) T5(-6.75,-9.75) T6(-5.25,-9.75) T7(-3.75,-9.75) T8(-2.25,-9.75) T9(-0.75,-9.75) T10(0.75,-9.75) T11(2.25,-9.75) T12(3.75,-9.75) T13(5.25,-9.75) T14(6.75,-9.75) T15(8.25,-9.75) T16(9.75,-9.75) T17(11.25,-9.75) T18(12.75,-9.75) U1(-12.75,-11.25) U2(-11.25,-11.25) U3(-9.75,-11.25) U4(-8.25,-11.25) U5(-6.75,-11.25) U6(-5.25,-11.25) U7(-3.75,-11.25) U8(-2.25,-11.25) U9(-0.75,-11.25) U10(0.75,-11.25) U11(2.25,-11.25) U12(3.75,-11.25) U13(5.25,-11.25) U14(6.75,-11.25) U15(8.25,-11.25) U16(9.75,-11.25) U17(11.25,-11.25) U18(12.75,-11.25) V1(-12.75,-12.75) V2(-11.25,-12.75) V3(-9.75,-12.75) V4(-8.25,-12.75) V5(-6.75,-12.75) V6(-5.25,-12.75) V7(-3.75,-12.75) V8(-2.25,-12.75) V9(-0.75,-12.75) V10(0.75,-12.75) V11(2.25,-12.75) V12(3.75,-12.75) V13(5.25,-12.75) V14(6.75,-12.75) V15(8.25,-12.75) V16(9.75,-12.75) V17(11.25,-12.75) V18(12.75,-12.75)
Top Overlay:
  circle w0.25: c-14.155,12.75 r0.125
  lines w0.2: -13.5,-12.99 -12.99,-13.5 12.99,-13.5 13.5,-12.99 13.5,12.99 12.99,13.5 -13.5,13.5 -13.5,-12.99

## PBGA27X27-FO289 [mm] "BGA; 289 Balls; Body 27 x 27 mm; Pitch 1.5 mm"
height 3.5
pads (289):
  round 0.6 smd: A1(-12,12) A2(-10.5,12) A3(-9,12) A4(-7.5,12) A5(-6,12) A6(-4.5,12) A7(-3,12) A8(-1.5,12) A9(0,12) A10(1.5,12) A11(3,12) A12(4.5,12) A13(6,12) A14(7.5,12) A15(9,12) A16(10.5,12) A17(12,12) B1(-12,10.5) B2(-10.5,10.5) B3(-9,10.5) B4(-7.5,10.5) B5(-6,10.5) B6(-4.5,10.5) B7(-3,10.5) B8(-1.5,10.5) B9(0,10.5) B10(1.5,10.5) B11(3,10.5) B12(4.5,10.5) B13(6,10.5) B14(7.5,10.5) B15(9,10.5) B16(10.5,10.5) B17(12,10.5) C1(-12,9) C2(-10.5,9) C3(-9,9) C4(-7.5,9) C5(-6,9) C6(-4.5,9) C7(-3,9) C8(-1.5,9) C9(0,9) C10(1.5,9) C11(3,9) C12(4.5,9) C13(6,9) C14(7.5,9) C15(9,9) C16(10.5,9) C17(12,9) D1(-12,7.5) D2(-10.5,7.5) D3(-9,7.5) D4(-7.5,7.5) D5(-6,7.5) D6(-4.5,7.5) D7(-3,7.5) D8(-1.5,7.5) D9(0,7.5) D10(1.5,7.5) D11(3,7.5) D12(4.5,7.5) D13(6,7.5) D14(7.5,7.5) D15(9,7.5) D16(10.5,7.5) D17(12,7.5) E1(-12,6) E2(-10.5,6) E3(-9,6) E4(-7.5,6) E5(-6,6) E6(-4.5,6) E7(-3,6) E8(-1.5,6) E9(0,6) E10(1.5,6) E11(3,6) E12(4.5,6) E13(6,6) E14(7.5,6) E15(9,6) E16(10.5,6) E17(12,6) F1(-12,4.5) F2(-10.5,4.5) F3(-9,4.5) F4(-7.5,4.5) F5(-6,4.5) F6(-4.5,4.5) F7(-3,4.5) F8(-1.5,4.5) F9(0,4.5) F10(1.5,4.5) F11(3,4.5) F12(4.5,4.5) F13(6,4.5) F14(7.5,4.5) F15(9,4.5) F16(10.5,4.5) F17(12,4.5) G1(-12,3) G2(-10.5,3) G3(-9,3) G4(-7.5,3) G5(-6,3) G6(-4.5,3) G7(-3,3) G8(-1.5,3) G9(0,3) G10(1.5,3) G11(3,3) G12(4.5,3) G13(6,3) G14(7.5,3) G15(9,3) G16(10.5,3) G17(12,3) H1(-12,1.5) H2(-10.5,1.5) H3(-9,1.5) H4(-7.5,1.5) H5(-6,1.5) H6(-4.5,1.5) H7(-3,1.5) H8(-1.5,1.5) H9(0,1.5) H10(1.5,1.5) H11(3,1.5) H12(4.5,1.5) H13(6,1.5) H14(7.5,1.5) H15(9,1.5) H16(10.5,1.5) H17(12,1.5) J1(-12,0) J2(-10.5,0) J3(-9,0) J4(-7.5,0) J5(-6,0) J6(-4.5,0) J7(-3,0) J8(-1.5,0) J9(0,0) J10(1.5,0) J11(3,0) J12(4.5,0) J13(6,0) J14(7.5,0) J15(9,0) J16(10.5,0) J17(12,0) K1(-12,-1.5) K2(-10.5,-1.5) K3(-9,-1.5) K4(-7.5,-1.5) K5(-6,-1.5) K6(-4.5,-1.5) K7(-3,-1.5) K8(-1.5,-1.5) K9(0,-1.5) K10(1.5,-1.5) K11(3,-1.5) K12(4.5,-1.5) K13(6,-1.5) K14(7.5,-1.5) K15(9,-1.5) K16(10.5,-1.5) K17(12,-1.5) L1(-12,-3) L2(-10.5,-3) L3(-9,-3) L4(-7.5,-3) L5(-6,-3) L6(-4.5,-3) L7(-3,-3) L8(-1.5,-3) L9(0,-3) L10(1.5,-3) L11(3,-3) L12(4.5,-3) L13(6,-3) L14(7.5,-3) L15(9,-3) L16(10.5,-3) L17(12,-3) M1(-12,-4.5) M2(-10.5,-4.5) M3(-9,-4.5) M4(-7.5,-4.5) M5(-6,-4.5) M6(-4.5,-4.5) M7(-3,-4.5) M8(-1.5,-4.5) M9(0,-4.5) M10(1.5,-4.5) M11(3,-4.5) M12(4.5,-4.5) M13(6,-4.5) M14(7.5,-4.5) M15(9,-4.5) M16(10.5,-4.5) M17(12,-4.5) N1(-12,-6) N2(-10.5,-6) N3(-9,-6) N4(-7.5,-6) N5(-6,-6) N6(-4.5,-6) N7(-3,-6) N8(-1.5,-6) N9(0,-6) N10(1.5,-6) N11(3,-6) N12(4.5,-6) N13(6,-6) N14(7.5,-6) N15(9,-6) N16(10.5,-6) N17(12,-6) P1(-12,-7.5) P2(-10.5,-7.5) P3(-9,-7.5) P4(-7.5,-7.5) P5(-6,-7.5) P6(-4.5,-7.5) P7(-3,-7.5) P8(-1.5,-7.5) P9(0,-7.5) P10(1.5,-7.5) P11(3,-7.5) P12(4.5,-7.5) P13(6,-7.5) P14(7.5,-7.5) P15(9,-7.5) P16(10.5,-7.5) P17(12,-7.5) R1(-12,-9) R2(-10.5,-9) R3(-9,-9) R4(-7.5,-9) R5(-6,-9) R6(-4.5,-9) R7(-3,-9) R8(-1.5,-9) R9(0,-9) R10(1.5,-9) R11(3,-9) R12(4.5,-9) R13(6,-9) R14(7.5,-9) R15(9,-9) R16(10.5,-9) R17(12,-9) T1(-12,-10.5) T2(-10.5,-10.5) T3(-9,-10.5) T4(-7.5,-10.5) T5(-6,-10.5) T6(-4.5,-10.5) T7(-3,-10.5) T8(-1.5,-10.5) T9(0,-10.5) T10(1.5,-10.5) T11(3,-10.5) T12(4.5,-10.5) T13(6,-10.5) T14(7.5,-10.5) T15(9,-10.5) T16(10.5,-10.5) T17(12,-10.5) U1(-12,-12) U2(-10.5,-12) U3(-9,-12) U4(-7.5,-12) U5(-6,-12) U6(-4.5,-12) U7(-3,-12) U8(-1.5,-12) U9(0,-12) U10(1.5,-12) U11(3,-12) U12(4.5,-12) U13(6,-12) U14(7.5,-12) U15(9,-12) U16(10.5,-12) U17(12,-12)
Top Overlay:
  circle w0.25: c-14.155,12 r0.125
  lines w0.2: -13.5,-12.5 -13.5,13.5 12.5,13.5 13.5,12.5 13.5,-12.5 12.5,-13.5 -12.5,-13.5 -13.5,-12.5

## PBGA29X29-FE324 [mm] "BGA; 324 Balls; Body 29 x 29 mm; Pitch 1.5 mm"
height 3.5
pads (324):
  round 0.6 smd: A1(-12.75,12.75) A2(-11.25,12.75) A3(-9.75,12.75) A4(-8.25,12.75) A5(-6.75,12.75) A6(-5.25,12.75) A7(-3.75,12.75) A8(-2.25,12.75) A9(-0.75,12.75) A10(0.75,12.75) A11(2.25,12.75) A12(3.75,12.75) A13(5.25,12.75) A14(6.75,12.75) A15(8.25,12.75) A16(9.75,12.75) A17(11.25,12.75) A18(12.75,12.75) B1(-12.75,11.25) B2(-11.25,11.25) B3(-9.75,11.25) B4(-8.25,11.25) B5(-6.75,11.25) B6(-5.25,11.25) B7(-3.75,11.25) B8(-2.25,11.25) B9(-0.75,11.25) B10(0.75,11.25) B11(2.25,11.25) B12(3.75,11.25) B13(5.25,11.25) B14(6.75,11.25) B15(8.25,11.25) B16(9.75,11.25) B17(11.25,11.25) B18(12.75,11.25) C1(-12.75,9.75) C2(-11.25,9.75) C3(-9.75,9.75) C4(-8.25,9.75) C5(-6.75,9.75) C6(-5.25,9.75) C7(-3.75,9.75) C8(-2.25,9.75) C9(-0.75,9.75) C10(0.75,9.75) C11(2.25,9.75) C12(3.75,9.75) C13(5.25,9.75) C14(6.75,9.75) C15(8.25,9.75) C16(9.75,9.75) C17(11.25,9.75) C18(12.75,9.75) D1(-12.75,8.25) D2(-11.25,8.25) D3(-9.75,8.25) D4(-8.25,8.25) D5(-6.75,8.25) D6(-5.25,8.25) D7(-3.75,8.25) D8(-2.25,8.25) D9(-0.75,8.25) D10(0.75,8.25) D11(2.25,8.25) D12(3.75,8.25) D13(5.25,8.25) D14(6.75,8.25) D15(8.25,8.25) D16(9.75,8.25) D17(11.25,8.25) D18(12.75,8.25) E1(-12.75,6.75) E2(-11.25,6.75) E3(-9.75,6.75) E4(-8.25,6.75) E5(-6.75,6.75) E6(-5.25,6.75) E7(-3.75,6.75) E8(-2.25,6.75) E9(-0.75,6.75) E10(0.75,6.75) E11(2.25,6.75) E12(3.75,6.75) E13(5.25,6.75) E14(6.75,6.75) E15(8.25,6.75) E16(9.75,6.75) E17(11.25,6.75) E18(12.75,6.75) F1(-12.75,5.25) F2(-11.25,5.25) F3(-9.75,5.25) F4(-8.25,5.25) F5(-6.75,5.25) F6(-5.25,5.25) F7(-3.75,5.25) F8(-2.25,5.25) F9(-0.75,5.25) F10(0.75,5.25) F11(2.25,5.25) F12(3.75,5.25) F13(5.25,5.25) F14(6.75,5.25) F15(8.25,5.25) F16(9.75,5.25) F17(11.25,5.25) F18(12.75,5.25) G1(-12.75,3.75) G2(-11.25,3.75) G3(-9.75,3.75) G4(-8.25,3.75) G5(-6.75,3.75) G6(-5.25,3.75) G7(-3.75,3.75) G8(-2.25,3.75) G9(-0.75,3.75) G10(0.75,3.75) G11(2.25,3.75) G12(3.75,3.75) G13(5.25,3.75) G14(6.75,3.75) G15(8.25,3.75) G16(9.75,3.75) G17(11.25,3.75) G18(12.75,3.75) H1(-12.75,2.25) H2(-11.25,2.25) H3(-9.75,2.25) H4(-8.25,2.25) H5(-6.75,2.25) H6(-5.25,2.25) H7(-3.75,2.25) H8(-2.25,2.25) H9(-0.75,2.25) H10(0.75,2.25) H11(2.25,2.25) H12(3.75,2.25) H13(5.25,2.25) H14(6.75,2.25) H15(8.25,2.25) H16(9.75,2.25) H17(11.25,2.25) H18(12.75,2.25) J1(-12.75,0.75) J2(-11.25,0.75) J3(-9.75,0.75) J4(-8.25,0.75) J5(-6.75,0.75) J6(-5.25,0.75) J7(-3.75,0.75) J8(-2.25,0.75) J9(-0.75,0.75) J10(0.75,0.75) J11(2.25,0.75) J12(3.75,0.75) J13(5.25,0.75) J14(6.75,0.75) J15(8.25,0.75) J16(9.75,0.75) J17(11.25,0.75) J18(12.75,0.75) K1(-12.75,-0.75) K2(-11.25,-0.75) K3(-9.75,-0.75) K4(-8.25,-0.75) K5(-6.75,-0.75) K6(-5.25,-0.75) K7(-3.75,-0.75) K8(-2.25,-0.75) K9(-0.75,-0.75) K10(0.75,-0.75) K11(2.25,-0.75) K12(3.75,-0.75) K13(5.25,-0.75) K14(6.75,-0.75) K15(8.25,-0.75) K16(9.75,-0.75) K17(11.25,-0.75) K18(12.75,-0.75) L1(-12.75,-2.25) L2(-11.25,-2.25) L3(-9.75,-2.25) L4(-8.25,-2.25) L5(-6.75,-2.25) L6(-5.25,-2.25) L7(-3.75,-2.25) L8(-2.25,-2.25) L9(-0.75,-2.25) L10(0.75,-2.25) L11(2.25,-2.25) L12(3.75,-2.25) L13(5.25,-2.25) L14(6.75,-2.25) L15(8.25,-2.25) L16(9.75,-2.25) L17(11.25,-2.25) L18(12.75,-2.25) M1(-12.75,-3.75) M2(-11.25,-3.75) M3(-9.75,-3.75) M4(-8.25,-3.75) M5(-6.75,-3.75) M6(-5.25,-3.75) M7(-3.75,-3.75) M8(-2.25,-3.75) M9(-0.75,-3.75) M10(0.75,-3.75) M11(2.25,-3.75) M12(3.75,-3.75) M13(5.25,-3.75) M14(6.75,-3.75) M15(8.25,-3.75) M16(9.75,-3.75) M17(11.25,-3.75) M18(12.75,-3.75) N1(-12.75,-5.25) N2(-11.25,-5.25) N3(-9.75,-5.25) N4(-8.25,-5.25) N5(-6.75,-5.25) N6(-5.25,-5.25) N7(-3.75,-5.25) N8(-2.25,-5.25) N9(-0.75,-5.25) N10(0.75,-5.25) N11(2.25,-5.25) N12(3.75,-5.25) N13(5.25,-5.25) N14(6.75,-5.25) N15(8.25,-5.25) N16(9.75,-5.25) N17(11.25,-5.25) N18(12.75,-5.25) P1(-12.75,-6.75) P2(-11.25,-6.75) P3(-9.75,-6.75) P4(-8.25,-6.75) P5(-6.75,-6.75) P6(-5.25,-6.75) P7(-3.75,-6.75) P8(-2.25,-6.75) P9(-0.75,-6.75) P10(0.75,-6.75) P11(2.25,-6.75) P12(3.75,-6.75) P13(5.25,-6.75) P14(6.75,-6.75) P15(8.25,-6.75) P16(9.75,-6.75) P17(11.25,-6.75) P18(12.75,-6.75) R1(-12.75,-8.25) R2(-11.25,-8.25) R3(-9.75,-8.25) R4(-8.25,-8.25) R5(-6.75,-8.25) R6(-5.25,-8.25) R7(-3.75,-8.25) R8(-2.25,-8.25) R9(-0.75,-8.25) R10(0.75,-8.25) R11(2.25,-8.25) R12(3.75,-8.25) R13(5.25,-8.25) R14(6.75,-8.25) R15(8.25,-8.25) R16(9.75,-8.25) R17(11.25,-8.25) R18(12.75,-8.25) T1(-12.75,-9.75) T2(-11.25,-9.75) T3(-9.75,-9.75) T4(-8.25,-9.75) T5(-6.75,-9.75) T6(-5.25,-9.75) T7(-3.75,-9.75) T8(-2.25,-9.75) T9(-0.75,-9.75) T10(0.75,-9.75) T11(2.25,-9.75) T12(3.75,-9.75) T13(5.25,-9.75) T14(6.75,-9.75) T15(8.25,-9.75) T16(9.75,-9.75) T17(11.25,-9.75) T18(12.75,-9.75) U1(-12.75,-11.25) U2(-11.25,-11.25) U3(-9.75,-11.25) U4(-8.25,-11.25) U5(-6.75,-11.25) U6(-5.25,-11.25) U7(-3.75,-11.25) U8(-2.25,-11.25) U9(-0.75,-11.25) U10(0.75,-11.25) U11(2.25,-11.25) U12(3.75,-11.25) U13(5.25,-11.25) U14(6.75,-11.25) U15(8.25,-11.25) U16(9.75,-11.25) U17(11.25,-11.25) U18(12.75,-11.25) V1(-12.75,-12.75) V2(-11.25,-12.75) V3(-9.75,-12.75) V4(-8.25,-12.75) V5(-6.75,-12.75) V6(-5.25,-12.75) V7(-3.75,-12.75) V8(-2.25,-12.75) V9(-0.75,-12.75) V10(0.75,-12.75) V11(2.25,-12.75) V12(3.75,-12.75) V13(5.25,-12.75) V14(6.75,-12.75) V15(8.25,-12.75) V16(9.75,-12.75) V17(11.25,-12.75) V18(12.75,-12.75)
Top Overlay:
  circle w0.25: c-15.155,12.75 r0.125
  lines w0.2: -14.5,-13.5 -13.5,-14.5 13.5,-14.5 14.5,-13.5 14.5,13.5 13.5,14.5 -14.5,14.5 -14.5,-13.5

## PBGA29X29-FO361 [mm] "BGA; 361 Balls; Body 29 x 29 mm; Pitch 1.5 mm"
height 3.5
pads (361):
  round 0.6 smd: A1(-13.5,13.5) A2(-12,13.5) A3(-10.5,13.5) A4(-9,13.5) A5(-7.5,13.5) A6(-6,13.5) A7(-4.5,13.5) A8(-3,13.5) A9(-1.5,13.5) A10(0,13.5) A11(1.5,13.5) A12(3,13.5) A13(4.5,13.5) A14(6,13.5) A15(7.5,13.5) A16(9,13.5) A17(10.5,13.5) A18(12,13.5) A19(13.5,13.5) B1(-13.5,12) B2(-12,12) B3(-10.5,12) B4(-9,12) B5(-7.5,12) B6(-6,12) B7(-4.5,12) B8(-3,12) B9(-1.5,12) B10(0,12) B11(1.5,12) B12(3,12) B13(4.5,12) B14(6,12) B15(7.5,12) B16(9,12) B17(10.5,12) B18(12,12) B19(13.5,12) C1(-13.5,10.5) C2(-12,10.5) C3(-10.5,10.5) C4(-9,10.5) C5(-7.5,10.5) C6(-6,10.5) C7(-4.5,10.5) C8(-3,10.5) C9(-1.5,10.5) C10(0,10.5) C11(1.5,10.5) C12(3,10.5) C13(4.5,10.5) C14(6,10.5) C15(7.5,10.5) C16(9,10.5) C17(10.5,10.5) C18(12,10.5) C19(13.5,10.5) D1(-13.5,9) D2(-12,9) D3(-10.5,9) D4(-9,9) D5(-7.5,9) D6(-6,9) D7(-4.5,9) D8(-3,9) D9(-1.5,9) D10(0,9) D11(1.5,9) D12(3,9) D13(4.5,9) D14(6,9) D15(7.5,9) D16(9,9) D17(10.5,9) D18(12,9) D19(13.5,9) E1(-13.5,7.5) E2(-12,7.5) E3(-10.5,7.5) E4(-9,7.5) E5(-7.5,7.5) E6(-6,7.5) E7(-4.5,7.5) E8(-3,7.5) E9(-1.5,7.5) E10(0,7.5) E11(1.5,7.5) E12(3,7.5) E13(4.5,7.5) E14(6,7.5) E15(7.5,7.5) E16(9,7.5) E17(10.5,7.5) E18(12,7.5) E19(13.5,7.5) F1(-13.5,6) F2(-12,6) F3(-10.5,6) F4(-9,6) F5(-7.5,6) F6(-6,6) F7(-4.5,6) F8(-3,6) F9(-1.5,6) F10(0,6) F11(1.5,6) F12(3,6) F13(4.5,6) F14(6,6) F15(7.5,6) F16(9,6) F17(10.5,6) F18(12,6) F19(13.5,6) G1(-13.5,4.5) G2(-12,4.5) G3(-10.5,4.5) G4(-9,4.5) G5(-7.5,4.5) G6(-6,4.5) G7(-4.5,4.5) G8(-3,4.5) G9(-1.5,4.5) G10(0,4.5) G11(1.5,4.5) G12(3,4.5) G13(4.5,4.5) G14(6,4.5) G15(7.5,4.5) G16(9,4.5) G17(10.5,4.5) G18(12,4.5) G19(13.5,4.5) H1(-13.5,3) H2(-12,3) H3(-10.5,3) H4(-9,3) H5(-7.5,3) H6(-6,3) H7(-4.5,3) H8(-3,3) H9(-1.5,3) H10(0,3) H11(1.5,3) H12(3,3) H13(4.5,3) H14(6,3) H15(7.5,3) H16(9,3) H17(10.5,3) H18(12,3) H19(13.5,3) J1(-13.5,1.5) J2(-12,1.5) J3(-10.5,1.5) J4(-9,1.5) J5(-7.5,1.5) J6(-6,1.5) J7(-4.5,1.5) J8(-3,1.5) J9(-1.5,1.5) J10(0,1.5) J11(1.5,1.5) J12(3,1.5) J13(4.5,1.5) J14(6,1.5) J15(7.5,1.5) J16(9,1.5) J17(10.5,1.5) J18(12,1.5) J19(13.5,1.5) K1(-13.5,0) K2(-12,0) K3(-10.5,0) K4(-9,0) K5(-7.5,0) K6(-6,0) K7(-4.5,0) K8(-3,0) K9(-1.5,0) K10(0,0) K11(1.5,0) K12(3,0) K13(4.5,0) K14(6,0) K15(7.5,0) K16(9,0) K17(10.5,0) K18(12,0) K19(13.5,0) L1(-13.5,-1.5) L2(-12,-1.5) L3(-10.5,-1.5) L4(-9,-1.5) L5(-7.5,-1.5) L6(-6,-1.5) L7(-4.5,-1.5) L8(-3,-1.5) L9(-1.5,-1.5) L10(0,-1.5) L11(1.5,-1.5) L12(3,-1.5) L13(4.5,-1.5) L14(6,-1.5) L15(7.5,-1.5) L16(9,-1.5) L17(10.5,-1.5) L18(12,-1.5) L19(13.5,-1.5) M1(-13.5,-3) M2(-12,-3) M3(-10.5,-3) M4(-9,-3) M5(-7.5,-3) M6(-6,-3) M7(-4.5,-3) M8(-3,-3) M9(-1.5,-3) M10(0,-3) M11(1.5,-3) M12(3,-3) M13(4.5,-3) M14(6,-3) M15(7.5,-3) M16(9,-3) M17(10.5,-3) M18(12,-3) M19(13.5,-3) N1(-13.5,-4.5) N2(-12,-4.5) N3(-10.5,-4.5) N4(-9,-4.5) N5(-7.5,-4.5) N6(-6,-4.5) N7(-4.5,-4.5) N8(-3,-4.5) N9(-1.5,-4.5) N10(0,-4.5) N11(1.5,-4.5) N12(3,-4.5) N13(4.5,-4.5) N14(6,-4.5) N15(7.5,-4.5) N16(9,-4.5) N17(10.5,-4.5) N18(12,-4.5) N19(13.5,-4.5) P1(-13.5,-6) P2(-12,-6) P3(-10.5,-6) P4(-9,-6) P5(-7.5,-6) P6(-6,-6) P7(-4.5,-6) P8(-3,-6) P9(-1.5,-6) P10(0,-6) P11(1.5,-6) P12(3,-6) P13(4.5,-6) P14(6,-6) P15(7.5,-6) P16(9,-6) P17(10.5,-6) P18(12,-6) P19(13.5,-6) R1(-13.5,-7.5) R2(-12,-7.5) R3(-10.5,-7.5) R4(-9,-7.5) R5(-7.5,-7.5) R6(-6,-7.5) R7(-4.5,-7.5) R8(-3,-7.5) R9(-1.5,-7.5) R10(0,-7.5) R11(1.5,-7.5) R12(3,-7.5) R13(4.5,-7.5) R14(6,-7.5) R15(7.5,-7.5) R16(9,-7.5) R17(10.5,-7.5) R18(12,-7.5) R19(13.5,-7.5) T1(-13.5,-9) T2(-12,-9) T3(-10.5,-9) T4(-9,-9) T5(-7.5,-9) T6(-6,-9) T7(-4.5,-9) T8(-3,-9) T9(-1.5,-9) T10(0,-9) T11(1.5,-9) T12(3,-9) T13(4.5,-9) T14(6,-9) T15(7.5,-9) T16(9,-9) T17(10.5,-9) T18(12,-9) T19(13.5,-9) U1(-13.5,-10.5) U2(-12,-10.5) U3(-10.5,-10.5) U4(-9,-10.5) U5(-7.5,-10.5) U6(-6,-10.5) U7(-4.5,-10.5) U8(-3,-10.5) U9(-1.5,-10.5) U10(0,-10.5) U11(1.5,-10.5) U12(3,-10.5) U13(4.5,-10.5) U14(6,-10.5) U15(7.5,-10.5) U16(9,-10.5) U17(10.5,-10.5) U18(12,-10.5) U19(13.5,-10.5) V1(-13.5,-12) V2(-12,-12) V3(-10.5,-12) V4(-9,-12) V5(-7.5,-12) V6(-6,-12) V7(-4.5,-12) V8(-3,-12) V9(-1.5,-12) V10(0,-12) V11(1.5,-12) V12(3,-12) V13(4.5,-12) V14(6,-12) V15(7.5,-12) V16(9,-12) V17(10.5,-12) V18(12,-12) V19(13.5,-12) W1(-13.5,-13.5) W2(-12,-13.5) W3(-10.5,-13.5) W4(-9,-13.5) W5(-7.5,-13.5) W6(-6,-13.5) W7(-4.5,-13.5) W8(-3,-13.5) W9(-1.5,-13.5) W10(0,-13.5) W11(1.5,-13.5) W12(3,-13.5) W13(4.5,-13.5) W14(6,-13.5) W15(7.5,-13.5) W16(9,-13.5) W17(10.5,-13.5) W18(12,-13.5) W19(13.5,-13.5)
Top Overlay:
  circle w0.25: c-15.155,13.5 r0.125
  lines w0.2: -14.5,-13.5 -13.5,-14.5 13.5,-14.5 14.5,-13.5 14.5,13.5 13.5,14.5 -14.5,14.5 -14.5,-13.5